# Altium schematic symbol library NX20P3483.SchLib: 1 symbol
Pins are listed as number, name and electrical type; pins without a type are passive.

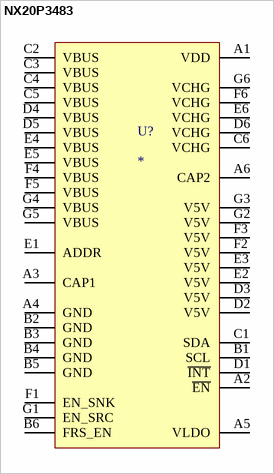
[diagram p0: symbol NX20P3483]

## NX20P3483
designator U?
pins: A1 VDD, A2 ~{EN}, A3 CAP1, A4 GND, A5 VLDO, A6 CAP2, B1 SCL, B2 GND, B3 GND, B4 GND, B5 GND, B6 FRS_EN, C1 SDA, C2 VBUS, C3 VBUS, C4 VBUS, C5 VBUS, C6 VCHG, D1 ~{INT}, D2 V5V, D3 V5V, D4 VBUS, D5 VBUS, D6 VCHG, E1 ADDR, E2 V5V, E3 V5V, E4 VBUS, E5 VBUS, E6 VCHG, F1 EN_SNK, F2 V5V, F3 V5V, F4 VBUS, F5 VBUS, F6 VCHG, G1 EN_SRC, G2 V5V, G3 V5V, G4 VBUS, G5 VBUS, G6 VCHG